# Altium schematic symbol library GRM155R71C104KA88D.SchLib: 2 symbols
Pins are listed as number, name and electrical type; pins without a type are passive.

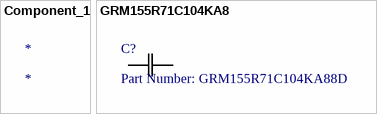
[diagram p0: symbols Component_1 to GRM155R71C104KA8]

## Component_1
designator *

## GRM155R71C104KA8
designator C?, comment Part Number: GRM155R71C104KA88D
CAP CER .1UF 16V X7R 0402; Vendor: Murata; Capacitance: 0.1ÂµF; Tolerance: Unknown; Operating_Temperature: -55Â°C ~ 125Â°C; Mounting_Type: Surface Mount, MLCC; HEADER_SECTION: Passives; HEADER_GROUP: Capacitors; R-S_Number: 6242317; Type: DEV; DigiKeyPartNumber: 490-3261-1-ND; Manufacturer_Part_Number: GRM155R71C104KA88D; Quantity_Available: 0; DataSheet: http://search.murata.co.jp/Ceramy/image/img/PDF/ENG/GRM155R71C104KA88.pdf; Voltage_-_Rated: 16V; Package_/_Case: 0402 (1005 metric); Temperature_Coefficient: X7R; Packaging: Cut Tape (CT); Features: General Purpose; Lead_Spacing: -; Thickness: 0.50mm; Manufacturer_Name: Murata; Mounting: Surface Mount; Value: Value; Voltage: Unknown; Package/Case: 0402; Current_Rating: Unknown; Copyright: Copyright (C) 2015 Accelerated Designs. All rights reserved; RefDes: RefDes
footprint CAP_GRM_155
pins: 1, 2